# Altium schematic symbol library Simulation_SPICE.SchLib: 20 symbols
Pins are listed as number, name and electrical type; pins without a type are passive.

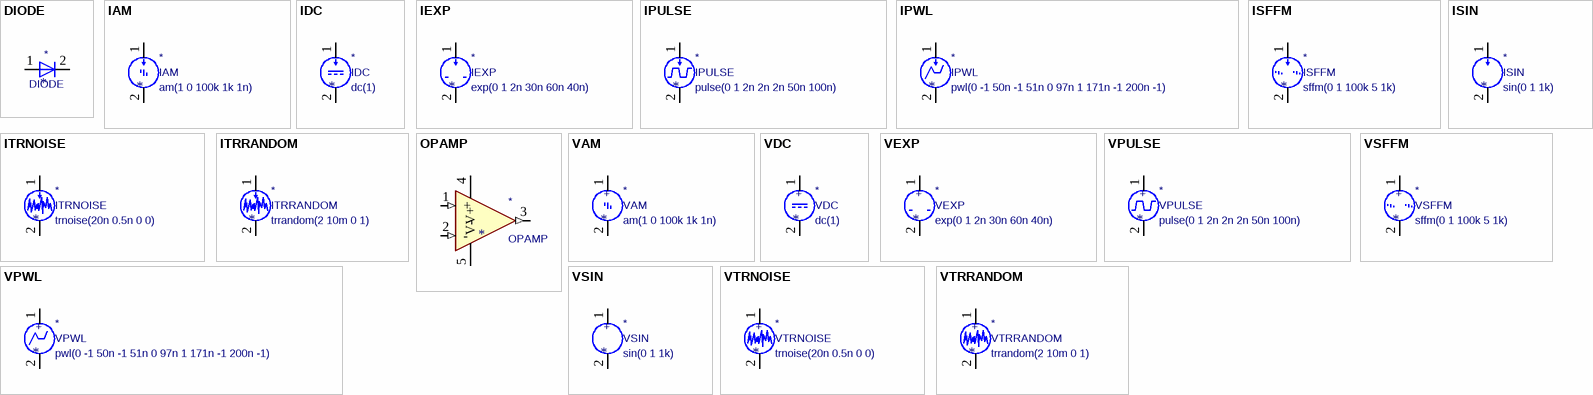
[diagram p0: symbols DIODE to VTRRANDOM]

## DIODE
designator *  value DIODE
ki_keywords: simulation; ki_description: Diode, anode on pin 1, for simulation only!; Supplier: ~; Spice_Netlist_Enabled: Y; Spice_Primitive: D
pins: 1 A, 2 K

## IAM
designator *  value IAM  Spice_Model: am(1 0 100k 1k 1n)
ki_keywords: simulation amplitude modulated; ki_description: Current source, AM; Supplier: ~; Spice_Netlist_Enabled: Y; Spice_Primitive: I
pins: 1, 2

## IDC
designator *  value IDC  Spice_Model: dc(1)
ki_keywords: simulation; ki_description: Current source, DC; Supplier: ~; Spice_Netlist_Enabled: Y; Spice_Primitive: I
pins: 1, 2

## IEXP
designator *  value IEXP  Spice_Model: exp(0 1 2n 30n 60n 40n)
ki_keywords: simulation; ki_description: Current source, exponential; Supplier: ~; Spice_Netlist_Enabled: Y; Spice_Primitive: I
pins: 1, 2

## IPULSE
designator *  value IPULSE  Spice_Model: pulse(0 1 2n 2n 2n 50n 100n)
ki_keywords: simulation; ki_description: Current source, pulse; Supplier: ~; Spice_Netlist_Enabled: Y; Spice_Primitive: I
pins: 1, 2

## IPWL
designator *  value IPWL  Spice_Model: pwl(0 -1 50n -1 51n 0 97n 1 171n -1 200n -1)
ki_keywords: simulation; ki_description: Current source, piece-wise linear; Supplier: ~; Spice_Netlist_Enabled: Y; Spice_Primitive: I
pins: 1, 2

## ISFFM
designator *  value ISFFM  Spice_Model: sffm(0 1 100k 5 1k)
ki_keywords: simulation frequency modulated; ki_description: Current source, single-frequency FM; Supplier: ~; Spice_Netlist_Enabled: Y; Spice_Primitive: I
pins: 1, 2

## ISIN
designator *  value ISIN  Spice_Model: sin(0 1 1k)
ki_keywords: simulation; ki_description: Current source, sinusoidal; Supplier: ~; Spice_Netlist_Enabled: Y; Spice_Primitive: I
pins: 1, 2

## ITRNOISE
designator *  value ITRNOISE  Spice_Model: trnoise(20n 0.5n 0 0)
ki_keywords: simulation; ki_description: Current source, transient noise; Supplier: ~; Spice_Netlist_Enabled: Y; Spice_Primitive: I
pins: 1, 2

## ITRRANDOM
designator *  value ITRRANDOM  Spice_Model: trrandom(2 10m 0 1)
ki_keywords: simulation; ki_description: Current source, random noise; Supplier: ~; Spice_Netlist_Enabled: Y; Spice_Primitive: I
pins: 1, 2

## OPAMP
designator *  value OPAMP
ki_keywords: simulation; ki_description: Operational amplifier, single, node sequence=1:+ 2:- 3:OUT 4:V+ 5:V-; Supplier: ~; Spice_Netlist_Enabled: Y; Spice_Primitive: X
pins: 1 + (in), 2 - (in), 3 (out), 4 V+ (power), 5 V- (power)

## VAM
designator *  value VAM  Spice_Model: am(1 0 100k 1k 1n)
ki_keywords: simulation amplitude modulated; ki_description: Voltage source, AM; Supplier: ~; Spice_Netlist_Enabled: Y; Spice_Primitive: V
pins: 1, 2
text: +

## VDC
designator *  value VDC  Spice_Model: dc(1)
ki_keywords: simulation; ki_description: Voltage source, DC; Supplier: ~; Spice_Netlist_Enabled: Y; Spice_Primitive: V
pins: 1, 2
text: +

## VEXP
designator *  value VEXP  Spice_Model: exp(0 1 2n 30n 60n 40n)
ki_keywords: simulation; ki_description: Voltage source, exponential; Supplier: ~; Spice_Netlist_Enabled: Y; Spice_Primitive: V
pins: 1, 2
text: +

## VPULSE
designator *  value VPULSE  Spice_Model: pulse(0 1 2n 2n 2n 50n 100n)
ki_keywords: simulation; ki_description: Voltage source, pulse; Supplier: ~; Spice_Netlist_Enabled: Y; Spice_Primitive: V
pins: 1, 2
text: +

## VPWL
designator *  value VPWL  Spice_Model: pwl(0 -1 50n -1 51n 0 97n 1 171n -1 200n -1)
ki_keywords: simulation; ki_description: Voltage source, piece-wise linear; Supplier: ~; Spice_Netlist_Enabled: Y; Spice_Primitive: V
pins: 1, 2
text: +

## VSFFM
designator *  value VSFFM  Spice_Model: sffm(0 1 100k 5 1k)
ki_keywords: simulation frequency modulated; ki_description: Voltage source, single-frequency FM; Supplier: ~; Spice_Netlist_Enabled: Y; Spice_Primitive: V
pins: 1, 2
text: +

## VSIN
designator *  value VSIN  Spice_Model: sin(0 1 1k)
ki_keywords: simulation; ki_description: Voltage source, sinusoidal; Supplier: ~; Spice_Netlist_Enabled: Y; Spice_Primitive: V
pins: 1, 2
text: +

## VTRNOISE
designator *  value VTRNOISE  Spice_Model: trnoise(20n 0.5n 0 0)
ki_keywords: simulation; ki_description: Voltage source, transient noise; Supplier: ~; Spice_Netlist_Enabled: Y; Spice_Primitive: V
pins: 1, 2
text: +

## VTRRANDOM
designator *  value VTRRANDOM  Spice_Model: trrandom(2 10m 0 1)
ki_keywords: simulation; ki_description: Voltage source, random noise; Supplier: ~; Spice_Netlist_Enabled: Y; Spice_Primitive: V
pins: 1, 2
text: +